# Altium footprint library LPON_SENSOR.PcbLib: 5 footprints
Each footprint in its own frame and in the unit in brackets; x right, y up, seen from the top. Pads: shape width x height; smd on the part's side, far side on the other; paste and mask are expansions set on the pad; w line width, h text height; cw(c..) or ccw(c..) is an arc to the next point about the centre after c.
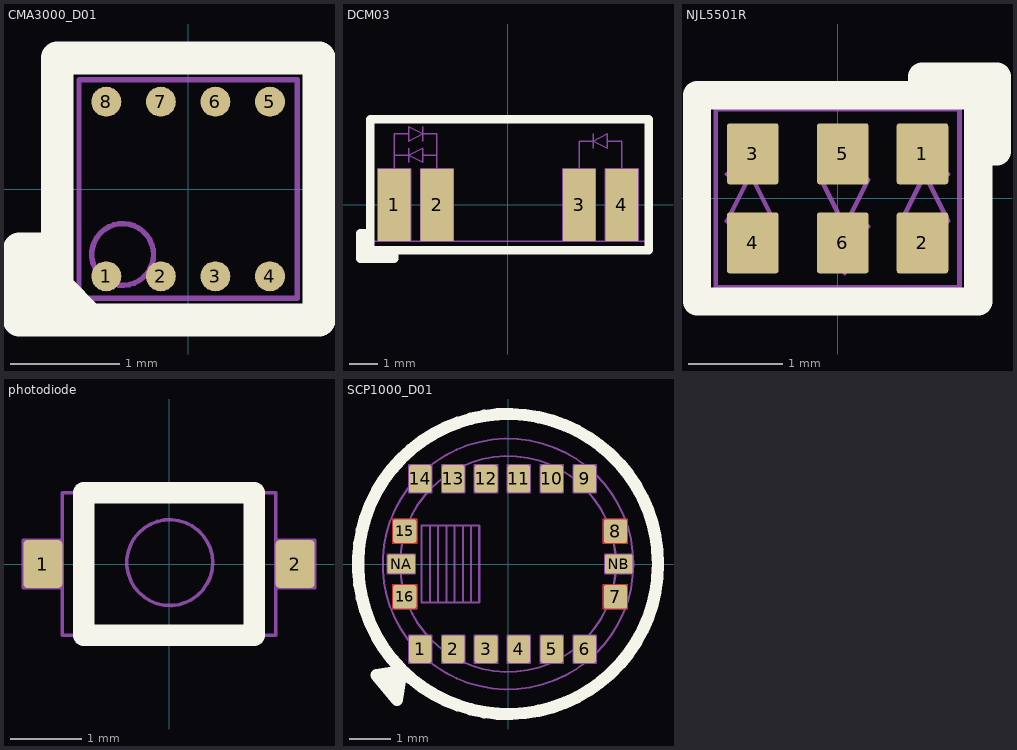
[diagram p0: the footprints below, top view; thin cyan lines are the x and y axes]

## CMA3000_D01 [mm] "Acceleration Sensor 2x2x0.95mm"
height 0.95
pads (8):
  round 0.275 smd mask+0.05: 1(-0.75,-0.8) 2(-0.25,-0.8) 3(0.25,-0.8) 4(0.75,-0.8) 5(0.75,0.8) 6(0.25,0.8) 7(-0.25,0.8) 8(-0.75,0.8)
Top Overlay:
  lines w0.3: -1.2,-0.85 -1.2,-0.9 -0.9,-1.2 ; -1.35,-1.2 -1.55,-1.2 -1.55,-0.55 -1.2,-0.55 -1.35,-0.55 -1.35,-1.2 ; -1.35,-1.2 -1.2,-1.2 ; -1.2,-1.2 -1.2,1.2 1.2,1.2 1.2,-1.2 -1.2,-1.2
Mechanical 1:
  circle w0.05: c-0.6,-0.6 r0.283
  lines w0.05: -1,-1 -1,1 1,1 1,-1 -1,-1
  text "8" at -0.9,0.4 h0.5
  text "5" at 0.5,0.4 h0.5
  text "4" at 0.5,-0.9 h0.5
  text "IC?" at 0,0 h0.5

## DCM03 [mm] "Integrated Dual Emitter and Photodetector; 4 Leads"
height 1.3
pads (4):
  rect 1.15x2.55 smd: 1(-4.003,0) 2(-2.497,0) 3(2.503,0) 4(4.003,0)
Top Overlay:
  lines w0.3: -5.2,-1.9 -4,-1.9 -4,-1.7 -5,-1.7 -5,-1 -4.847,-1 -5.2,-1 -5.2,-1.9 ; -4.847,-1.6 4.953,-1.6 4.953,3.025 -4.847,3.025 -4.847,-1.6
Mechanical 1:
  lines w0.05: -4,1.275 -4,2.5 -3.5,2.5 ; -4,1.75 -3.5,1.75 ; -3.5,1.5 -3.5,2 ; -3,1.75 -2.5,1.75 ; -3,2.25 -3,2.75 ; -2.5,1.275 -2.5,2.5 -3,2.5 ; 2.503,1.275 2.503,2.25 3,2.25 ; 3,2 3,2.5 ; 3.5,2.25 4.003,2.25 4.003,1.275 ; -3.5,1.75 -3,2 -3,1.5 -3.5,1.75 ; -3,2.5 -3.5,2.25 -3.5,2.75 -3,2.5 ; 3,2.25 3.5,2 3.5,2.5 3,2.25 ; -4.847,-1.275 -4.847,3.025 4.953,3.025 4.953,-1.275 -4.847,-1.275 ; -4.578,-1.275 -4.578,1.275 -3.428,1.275 -3.428,-1.275 -4.578,-1.275 ; -3.072,-1.275 -1.922,-1.275 -1.922,1.275 -3.072,1.275 -3.072,-1.275 ; 1.928,-1.275 3.078,-1.275 3.078,1.275 1.928,1.275 1.928,-1.275 ; 3.428,-1.275 4.578,-1.275 4.578,1.275 3.428,1.275 3.428,-1.275
  text "->" at -2.776,1.761 h0.3
  text "->" at -2.785,2.485 h0.3
  text "->" at 2.91,2.749 h0.3
  text "4" at 3.6,-0.5 h1
  text "3" at 2.2,-0.5 h1
  text "2" at -2.8,-0.5 h1
  text "1" at -4.2,-0.5 h1
  text "IC?" at 0,0 h0.5

## NJL5501R [mm] "Integrated Dual Emitter and Photodetector 1.9x2.6x0.8mm"
height 0.8
pads (6):
  rrect10% 0.55x0.65 smd mask+0.1: 1(0.905,0.475) 2(0.905,-0.475) 3(-0.905,0.475) 4(-0.905,-0.475) 5(0.055,0.475) 6(0.055,-0.475)
Top Overlay:
  lines w0.3: 0.9,1.1 0.9,1.3 1.7,1.3 1.7,0.5 1.5,0.5 ; -1.5,-1.1 -1.5,1.1 1.5,1.1 1.5,-1.1 -1.5,-1.1
Mechanical 1:
  lines w0.05: -1.179,0.258 -0.679,0.258 ; -0.929,-0.742 -0.929,-0.242 ; -0.929,0.758 -0.929,0.258 ; -0.175,-0.3 0.325,-0.3 ; 0.075,-0.797 0.075,-0.3 ; 0.075,0.2 0.075,0.703 ; 0.679,0.258 1.179,0.258 ; 0.929,-0.742 0.929,-0.242 ; 0.929,0.758 0.929,0.258 ; -0.929,0.258 -1.179,-0.242 -0.679,-0.242 -0.929,0.258 ; 0.075,-0.3 -0.175,0.2 0.325,0.2 0.075,-0.3 ; 0.929,0.258 0.679,-0.242 1.179,-0.242 0.929,0.258 ; -1.3,-0.95 -1.3,0.95 1.3,0.95 1.3,-0.95 -1.3,-0.95
  text "3" at -1.2,0.5 h0.3
  text "1" at 1.05,0.5 h0.3
  text "660" at 0.4,-0.85 h0.3
  text "940" at -1.2,-0.85 h0.3
  text "->" at 0.6,-0.2 h0.3
  text "->" at -0.944,0.473 h0.3
  text "->" at -0.5,-0.2 h0.3
  text "->" at 0.944,0.473 h0.3

## photodiode [mm] "photodiode"
height 1.7
pads (2):
  rrect20% 0.55x0.67 smd mask+0.05: 1(-1.775,0) 2(1.775,0)
Top Overlay:
  lines w0.3: -1.2,-1 -1.2,1 1.2,1 1.2,-1 -1.2,-1
Mechanical 1:
  circle w0.05: c0.01,0.02 r0.604
  lines w0.05: -2.05,-0.335 -2.05,0.335 -1.5,0.335 -1.5,-0.335 -2.05,-0.335 ; -1.5,-1 -1.5,1 1.5,1 1.5,-1 -1.5,-1 ; 1.5,-0.335 2.05,-0.335 2.05,0.335 1.5,0.335 1.5,-0.335
  text "D?" at -0.34,1.37 h0.5
3D body: height 2.77, standoff 0.05, extent -2.09,-1.13 2.11,1.17

## SCP1000_D01 [mm] "Pressure Sensor SPI Interface"
height 1.7
pads (18):
  rrect20% 0.55x0.67 smd mask+0.05: 1(-2.135,-2.07) 2(-1.335,-2.07) 3(-0.535,-2.07) 4(0.265,-2.07) 5(1.065,-2.07) 6(1.865,-2.07) 9(1.865,2.07) 10(1.065,2.07) 11(0.265,2.07) 12(-0.535,2.07) 13(-1.335,2.07) 14(-2.135,2.07)
  rrect20% 0.57x0.57 smd mask+0.05: 7(2.615,-0.8) 8(2.615,0.8) 15(-2.515,0.8) 16(-2.515,-0.8)
  rrect20% 0.67x0.47 smd mask+0.05: NA(-2.595,0) NB(2.695,0)
Top Layer:
  lines w0.05: 2.33,-1.085 2.33,-0.515 ; 2.33,-1.085 2.9,-1.085 ; 2.33,-1.085 2.9,-1.085 ; 2.33,-1.085 2.33,-0.515 ; 2.33,-0.515 2.9,-0.515 ; 2.33,-0.515 2.9,-0.515 ; 2.33,0.515 2.33,1.085 ; 2.33,0.515 2.9,0.515 ; 2.33,0.515 2.9,0.515 ; 2.33,0.515 2.33,1.085 ; 2.33,1.085 2.9,1.085 ; 2.33,1.085 2.9,1.085 ; 2.9,-1.085 2.9,-0.515 ; 2.9,-1.085 2.9,-0.515 ; 2.9,0.515 2.9,1.085 ; 2.9,0.515 2.9,1.085 ; -2.8,-1.085 -2.23,-1.085 -2.23,-0.515 -2.8,-0.515 -2.8,-1.085 ; -2.8,0.515 -2.23,0.515 -2.23,1.085 -2.8,1.085 -2.8,0.515
Top Overlay:
  circle w0.3: c0,0 r3.65
  lines w0.3: -2.975,-2.975 -2.6,-2.6 ; -2.6,-2.6 -3.2,-2.7 -2.7,-3.3 -2.6,-2.6
Mechanical 1:
  circle w0.05: c0,0 r3.05
  circle w0.05: c0,0 r2.625
  lines w0.05: -1.9,-0.94 -1.9,0.94 ; -1.7,-0.94 -1.7,0.94 ; -1.5,-0.94 -1.5,0.94 ; -1.3,-0.94 -1.3,0.94 ; -1.1,-0.94 -1.1,0.94 ; -0.9,-0.94 -0.9,0.94 ; -2.93,-0.235 -2.93,0.235 -2.26,0.235 -2.26,-0.235 -2.93,-0.235 ; -2.8,-1.085 -2.8,-0.515 -2.23,-0.515 -2.23,-1.085 -2.8,-1.085 ; -2.8,0.515 -2.23,0.515 -2.23,1.085 -2.8,1.085 -2.8,0.515 ; -2.41,-2.405 -2.41,-1.735 -1.86,-1.735 -1.86,-2.405 -2.41,-2.405 ; -2.41,1.735 -1.86,1.735 -1.86,2.405 -2.41,2.405 -2.41,1.735 ; -2.1,-0.94 -2.1,0.94 -0.7,0.94 -0.7,-0.94 -2.1,-0.94 ; -1.61,-2.405 -1.06,-2.405 -1.06,-1.735 -1.61,-1.735 -1.61,-2.405 ; -1.61,1.735 -1.61,2.405 -1.06,2.405 -1.06,1.735 -1.61,1.735 ; -0.81,-2.405 -0.26,-2.405 -0.26,-1.735 -0.81,-1.735 -0.81,-2.405 ; -0.81,1.735 -0.81,2.405 -0.26,2.405 -0.26,1.735 -0.81,1.735 ; -0.01,-2.405 0.54,-2.405 0.54,-1.735 -0.01,-1.735 -0.01,-2.405 ; -0.01,1.735 -0.01,2.405 0.54,2.405 0.54,1.735 -0.01,1.735 ; 0.79,-2.405 1.34,-2.405 1.34,-1.735 0.79,-1.735 0.79,-2.405 ; 0.79,1.735 0.79,2.405 1.34,2.405 1.34,1.735 0.79,1.735 ; 1.59,-2.405 2.14,-2.405 2.14,-1.735 1.59,-1.735 1.59,-2.405 ; 1.59,1.735 1.59,2.405 2.14,2.405 2.14,1.735 1.59,1.735 ; 2.33,-1.085 2.33,-0.515 2.9,-0.515 2.9,-1.085 2.33,-1.085 ; 2.33,0.515 2.9,0.515 2.9,1.085 2.33,1.085 2.33,0.515 ; 2.36,-0.235 2.36,0.235 3.03,0.235 3.03,-0.235 2.36,-0.235
  text "IC?" at 0,0 h0.5
  text "16" at -1.9,-0.94 h0.5
  text "15" at -2.1,0.6 h0.5
  text "14" at -2.15,1.15 h0.5
  text "9" at 1.5,1.1 h0.5
  text "8" at 1.8,0.5 h0.5
  text "7" at 1.9,-1.1 h0.5
  text "6" at 1.6,-1.5 h0.5
  text "1" at -2.1,-1.6 h0.5